# EAGLE library part IS25LQ010B-JNLE (library IS25LQ010B-JNLE)
INTEGRATED SILICON SOLUTION (ISSI) - IS25LQ010B-JNLE - FLASH MEMORY, 1MBIT, 104MHZ, SOIC-8 Source: Datasheet <http://www.issi.com/WW/pdf/25LQ025B-512B-010B-020B-040B.pdf>
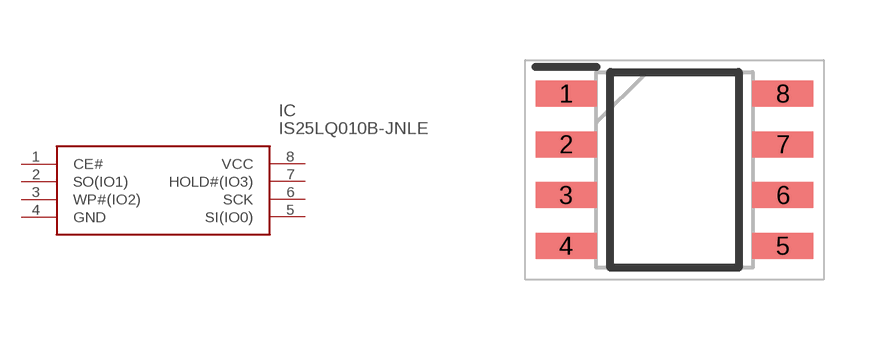
[diagram p0: symbol with the pads of SOIC127P600X175-8N; footprint SOIC127P600X175-8N]

Designator prefix IC

## IS25LQ010B-JNLE (Description: INTEGRATED SILICON SOLUTION (ISSI) - IS25LQ010B-JNLE - FLASH MEMORY, 1MBIT, 104MHZ, SOIC-8; Height: 1.75mm; Manufacturer_Name: Integrated Silicon Solution Inc.; Manufacturer_Part_Number: IS25LQ010B-JNLE; Mouser_Part_Number: 870-25LQ010BJNLE; Mouser_Price-Stock: https://www.mouser.co.uk/ProductDetail/ISSI/IS25LQ010B-JNLE?qs=bHq4TaS7gBd9760xUWbV4Q%3D%3D)  [SOIC127P600X175-8N]
1  CE#
2  SO(IO1)
3  WP#(IO2)
4  GND
5  SI(IO0)
6  SCK
7  HOLD#(IO3)
8  VCC

## Footprint SOIC127P600X175-8N (pad centres in mm)
8-PIN SOIC 150MIL
smd 1.525 x 0.65: 1 -2.712,1.905; 2 -2.712,0.635; 3 -2.712,-0.635; 4 -2.712,-1.905; 5 2.712,-1.905; 6 2.712,-0.635; 7 2.712,0.635; 8 2.712,1.905